# Altium schematic symbol library STM8S103F3Lib.SchLib: 1 symbol
Pins are listed as number, name and electrical type; pins without a type are passive.

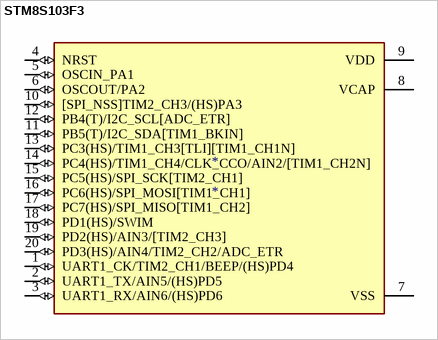
[diagram p0: symbol STM8S103F3]

## STM8S103F3
designator *
footprint SOP65P640X120-20N
pins: 1 UART1_CK/TIM2_CH1/BEEP/(HS)PD4 (io), 2 UART1_TX/AIN5/(HS)PD5 (io), 3 UART1_RX/AIN6/(HS)PD6 (io), 4 NRST (io), 5 OSCIN_PA1 (io), 6 OSCOUT/PA2 (io), 7 VSS (power), 8 VCAP, 9 VDD (power), 10 [SPI_NSS]TIM2_CH3/(HS)PA3 (io), 11 PB5(T)/I2C_SDA[TIM1_BKIN] (io), 12 PB4(T)/I2C_SCL[ADC_ETR] (io), 13 PC3(HS)/TIM1_CH3[TLI][TIM1_CH1N] (io), 14 PC4(HS)/TIM1_CH4/CLK_CCO/AIN2/[TIM1_CH2N] (io), 15 PC5(HS)/SPI_SCK[TIM2_CH1] (io), 16 PC6(HS)/SPI_MOSI[TIM1_CH1] (io), 17 PC7(HS)/SPI_MISO[TIM1_CH2] (io), 18 PD1(HS)/SWIM (io), 19 PD2(HS)/AIN3/[TIM2_CH3] (io), 20 PD3(HS)/AIN4/TIM2_CH2/ADC_ETR (io)